# Altium footprint library MODULES.PcbLib: 5 footprints
Each footprint in its own frame and in the unit in brackets; x right, y up, seen from the top. Pads: shape width x height; smd on the part's side, far side on the other; paste and mask are expansions set on the pad; w line width, h text height; cw(c..) or ccw(c..) is an arc to the next point about the centre after c.
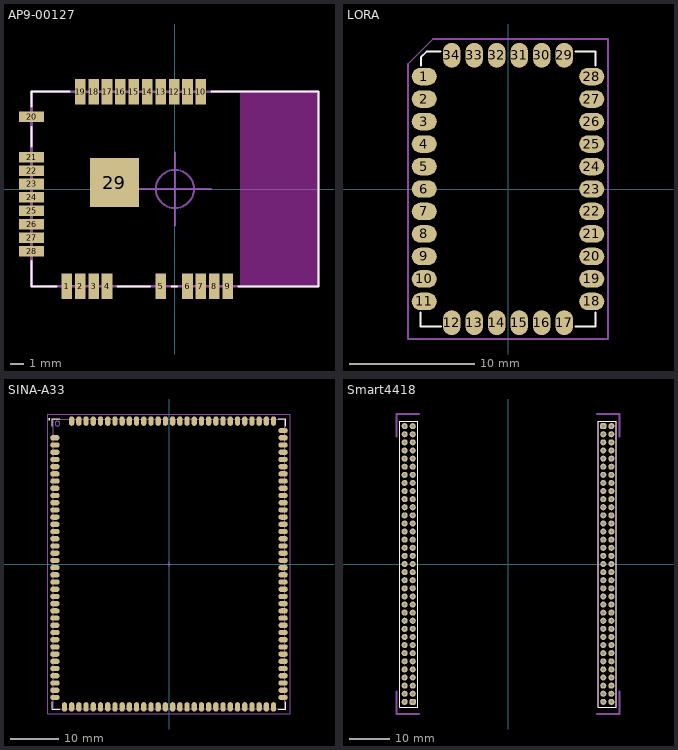
[diagram p0: the footprints below, top view; thin cyan lines are the x and y axes]

## AP9-00127 [mm]
pads (29):
  rect 0.8x1.9 smd: 1(-8.191,-7.366) 2(-7.175,-7.366) 3(-6.159,-7.366) 4(-5.143,-7.366) 5(-1.079,-7.366) 6(0.953,-7.366) 7(1.968,-7.366) 8(2.984,-7.366) 9(4,-7.366) 10(1.968,7.366) 11(0.953,7.366) 12(-0.064,7.366) 13(-1.079,7.366) 14(-2.095,7.366) 15(-3.111,7.366) 16(-4.127,7.366) 17(-5.143,7.366) 18(-6.159,7.366) 19(-7.175,7.366)
  rect 1.9x0.8 smd: 20(-10.858,5.461) 21(-10.858,2.413) 22(-10.858,1.397) 23(-10.858,0.381) 24(-10.858,-0.635) 25(-10.858,-1.651) 26(-10.858,-2.667) 27(-10.858,-3.683) 28(-10.858,-4.699)
  rect 3.7x3.7 smd: 29(-4.588,0.484)
Top Overlay:
  lines w0.15: -10.858,-5.469 -10.858,-7.366 -8.962,-7.366 ; -10.858,3.213 -10.858,4.704 ; -10.858,6.261 -10.858,7.366 -7.976,7.366 ; -4.343,-7.366 -1.88,-7.366 ; -0.279,-7.366 0.152,-7.366 ; 2.769,7.366 10.858,7.366 10.858,-7.366 4.801,-7.366
Keep-Out Layer:
  rectangle: 4.94,-7.391 10.909,7.341
Mechanical 14:
  lines w0.15: -10.858,-7.366 -10.858,7.366 10.858,7.366 10.858,-7.366 -10.858,-7.366
  text ".Designator" at -2.5,-0.7 h1.5
Mechanical 15:
  circle w0.15: c0,0 r1.442
  lines w0.15: -2.75,0 2.75,0 ; 0,-2.75 0,2.75
  lines w0.2: -10.858,-7.366 10.858,-7.366 10.858,7.366 -10.858,7.366 -10.858,-7.366
3D body "wifimodule.step": height 1.96, standoff 0, extent -10.858,-7.366 10.859,7.366

## HC-05 [mm]

## LORA [mm]
pads (34):
  oval 2x1.4 smd: 1(-6.7,9) 2(-6.7,7.2) 3(-6.7,5.4) 4(-6.7,3.6) 5(-6.7,1.8) 6(-6.7,0) 7(-6.7,-1.8) 8(-6.7,-3.6) 9(-6.7,-5.4) 10(-6.7,-7.2) 11(-6.7,-9) 18(6.7,-9) 19(6.7,-7.2) 20(6.7,-5.4) 21(6.7,-3.6) 22(6.7,-1.8) 23(6.7,0) 24(6.7,1.8) 25(6.7,3.6) 26(6.7,5.4) 27(6.7,7.2) 28(6.7,9)
  oval 1.4x2 smd: 12(-4.5,-10.7) 13(-2.7,-10.7) 14(-0.9,-10.7) 15(0.9,-10.7) 16(2.7,-10.7) 17(4.5,-10.7) 29(4.5,10.7) 30(2.7,10.7) 31(0.9,10.7) 32(-0.9,10.7) 33(-2.7,10.7) 34(-4.5,10.7)
Top Overlay:
  lines w0.15: -7,-9.889 -7,-11 -5.37,-11 ; -6.97,9.88 -6.97,10.54 -6.51,11 -5.38,11 ; 5.38,10.999 7,10.999 7,9.88 ; 5.4,-11 7,-11 7,-9.889
Mechanical 15:
  lines w0.15: -8,-12 -8,10 -6,12 8,12 8,-12 -8,-12
3D body "rak811.STEP": height 1.7, standoff -0.01, extent -7,-11.01 7.02,11.01

## SINA-A33 [mm] "Sinlin SBC"
height 4
pads (134):
  oval 1.95x1.1 smd: 1(-23.725,26.25) 2(-23.725,24.75) 3(-23.725,23.25) 4(-23.725,21.75) 5(-23.725,20.25) 6(-23.725,18.75) 7(-23.725,17.25) 8(-23.725,15.75) 9(-23.725,14.25) 10(-23.725,12.75) 11(-23.725,11.25) 12(-23.725,9.75) 13(-23.725,8.25) 14(-23.725,6.75) 15(-23.725,5.25) 16(-23.725,3.75) 17(-23.725,2.25) 18(-23.725,0.75) 19(-23.725,-0.75) 20(-23.725,-2.25) 21(-23.725,-3.75) 22(-23.725,-5.25) 23(-23.725,-6.75) 24(-23.725,-8.25) 25(-23.725,-9.75) 26(-23.725,-11.25) 27(-23.725,-12.75) 28(-23.725,-14.25) 29(-23.725,-15.75) 30(-23.725,-17.25) 31(-23.725,-18.75) 32(-23.725,-20.25) 33(-23.725,-21.75) 34(-23.725,-23.25) 35(-23.725,-24.75) 36(-23.725,-26.25) 37(-23.725,-27.75) 68(23.725,-27.75) 69(23.725,-26.25) 70(23.725,-24.75) 71(23.725,-23.25) 72(23.725,-21.75) 73(23.725,-20.25) 74(23.725,-18.75) 75(23.725,-17.25) 76(23.725,-15.75) 77(23.725,-14.25) 78(23.725,-12.75) 79(23.725,-11.25) 80(23.725,-9.75) 81(23.725,-8.25) 82(23.725,-6.75) 83(23.725,-5.25) 84(23.725,-3.75) 85(23.725,-2.25) 86(23.725,-0.75) 87(23.725,0.75) 88(23.725,2.25) 89(23.725,3.75) 90(23.725,5.25) 91(23.725,6.75) 92(23.725,8.25) 93(23.725,9.75) 94(23.725,11.25) 95(23.725,12.75) 96(23.725,14.25) 97(23.725,15.75) 98(23.725,17.25) 99(23.725,18.75) 100(23.725,20.25) 101(23.725,21.75) 102(23.725,23.25) 103(23.725,24.75) 104(23.725,26.25) 105(23.725,27.75)
  oval 1.1x1.95 smd: 38(-21.75,-29.725) 39(-20.25,-29.725) 40(-18.75,-29.725) 41(-17.25,-29.725) 42(-15.75,-29.725) 43(-14.25,-29.725) 44(-12.75,-29.725) 45(-11.25,-29.725) 46(-9.75,-29.725) 47(-8.25,-29.725) 48(-6.75,-29.725) 49(-5.25,-29.725) 50(-3.75,-29.725) 51(-2.25,-29.725) 52(-0.75,-29.725) 53(0.75,-29.725) 54(2.25,-29.725) 55(3.75,-29.725) 56(5.25,-29.725) 57(6.75,-29.725) 58(8.25,-29.725) 59(9.75,-29.725) 60(11.25,-29.725) 61(12.75,-29.725) 62(14.25,-29.725) 63(15.75,-29.725) 64(17.25,-29.725) 65(18.75,-29.725) 66(20.25,-29.725) 67(21.75,-29.725) 106(21.75,29.725) 107(20.25,29.725) 108(18.75,29.725) 109(17.25,29.725) 110(15.75,29.725) 111(14.25,29.725) 112(12.75,29.725) 113(11.25,29.725) 114(9.75,29.725) 115(8.25,29.725) 116(6.75,29.725) 117(5.25,29.725) 118(3.75,29.725) 119(2.25,29.725) 120(0.75,29.725) 121(-0.75,29.725) 122(-2.25,29.725) 123(-3.75,29.725) 124(-5.25,29.725) 125(-6.75,29.725) 126(-8.25,29.725) 127(-9.75,29.725) 128(-11.25,29.725) 129(-12.75,29.725) 130(-14.25,29.725) 131(-15.75,29.725) 132(-17.25,29.725) 133(-18.75,29.725) 134(-20.25,29.725)
Top Overlay:
  circle w0.25: c-24.9,30.1 r0.125
  lines w0.15: -24.25,-28.675 -24.25,-30.25 -22.675,-30.25 ; -24.25,28.675 -24.25,30.25 -22.675,30.25 ; 22.675,-30.25 24.25,-30.25 24.25,-28.675 ; 22.675,30.25 24.25,30.25 24.25,28.675
Mechanical 13:
  circle w0.1: c-23.2,29.2 r0.5
  lines w0.1: -24.1,-30.1 -24.1,30.1 24.1,30.1 24.1,-30.1 -24.1,-30.1
Mechanical 15:
  lines w0.05: -25.2,-31.2 -25.2,31.2 25.2,31.2 25.2,-31.2 -25.2,-31.2
  lines w0.1: -0.5,0 0.5,0 ; 0,-0.5 0,0.5
3D body "QFN150P4800X6000X400-136M.step": height 4, standoff 0, extent -24.11,-30.11 24.11,30.11

## Smart4418 [mm]
pads (140):
  rrect50% 1.5x1.5 hole 0.8: 1(-23.5,-34) 71(23.5,34)
  round 1.5 hole 0.8: 2(-25.5,-34) 3(-23.5,-32) 4(-25.5,-32) 5(-23.5,-30) 6(-25.5,-30) 7(-23.5,-28) 8(-25.5,-28) 9(-23.5,-26) 10(-25.5,-26) 11(-23.5,-24) 12(-25.5,-24) 13(-23.5,-22) 14(-25.5,-22) 15(-23.5,-20) 16(-25.5,-20) 17(-23.5,-18) 18(-25.5,-18) 19(-23.5,-16) 20(-25.5,-16) 21(-23.5,-14) 22(-25.5,-14) 23(-23.5,-12) 24(-25.5,-12) 25(-23.5,-10) 26(-25.5,-10) 27(-23.5,-8) 28(-25.5,-8) 29(-23.5,-6) 30(-25.5,-6) 31(-23.5,-4) 32(-25.5,-4) 33(-23.5,-2) 34(-25.5,-2) 35(-23.5,0) 36(-25.5,0) 37(-23.5,2) 38(-25.5,2) 39(-23.5,4) 40(-25.5,4) 41(-23.5,6) 42(-25.5,6) 43(-23.5,8) 44(-25.5,8) 45(-23.5,10) 46(-25.5,10) 47(-23.5,12) 48(-25.5,12) 49(-23.5,14) 50(-25.5,14) 51(-23.5,16) 52(-25.5,16) 53(-23.5,18) 54(-25.5,18) 55(-23.5,20) 56(-25.5,20) 57(-23.5,22) 58(-25.5,22) 59(-23.5,24) 60(-25.5,24) 61(-23.5,26) 62(-25.5,26) 63(-23.5,28) 64(-25.5,28) 65(-23.5,30) 66(-25.5,30) 67(-23.5,32) 68(-25.5,32) 69(-23.5,34) 70(-25.5,34) 72(25.5,34) 73(23.5,32) 74(25.5,32) 75(23.5,30) 76(25.5,30) 77(23.5,28) 78(25.5,28) 79(23.5,26) 80(25.5,26) 81(23.5,24) 82(25.5,24) 83(23.5,22) 84(25.5,22) 85(23.5,20) 86(25.5,20) 87(23.5,18) 88(25.5,18) 89(23.5,16) 90(25.5,16) 91(23.5,14) 92(25.5,14) 93(23.5,12) 94(25.5,12) 95(23.5,10) 96(25.5,10) 97(23.5,8) 98(25.5,8) 99(23.5,6) 100(25.5,6) 101(23.5,4) 102(25.5,4) 103(23.5,2) 104(25.5,2) 105(23.5,0) 106(25.5,0) 107(23.5,-2) 108(25.5,-2) 109(23.5,-4) 110(25.5,-4) 111(23.5,-6) 112(25.5,-6) 113(23.5,-8) 114(25.5,-8) 115(23.5,-10) 116(25.5,-10) 117(23.5,-12) 118(25.5,-12) 119(23.5,-14) 120(25.5,-14) 121(23.5,-16) 122(25.5,-16) 123(23.5,-18) 124(25.5,-18) 125(23.5,-20) 126(25.5,-20) 127(23.5,-22) 128(25.5,-22) 129(23.5,-24) 130(25.5,-24) 131(23.5,-26) 132(25.5,-26) 133(23.5,-28) 134(25.5,-28) 135(23.5,-30) 136(25.5,-30) 137(23.5,-32) 138(25.5,-32) 139(23.5,-34) 140(25.5,-34)
Top Overlay:
  lines w0.15: -26.75,-35.3 -22.25,-35.3 -22.25,35.25 -26.75,35.25 -26.75,-35.3 ; 22.25,-35.3 26.75,-35.3 26.75,35.25 22.25,35.25 22.25,-35.3
Mechanical 14:
  lines w0.1: -26.75,-35.3 -22.25,-35.3 -22.25,35.25 -26.75,35.25 -26.75,-35.3 ; 22.25,-35.3 26.75,-35.3 26.75,35.25 22.25,35.25 22.25,-35.3
  lines w0.55: -27.5,-31.5 -27.5,-37 -22,-37 ; -27.5,31.5 -27.5,37 -22,37 ; 22,-37 27.5,-37 27.5,-31.5 ; 22,37 27.5,37 27.5,31.5
  text ".Designator" at -5,-2 h3
3D body "Smart4418.STEP": height 9.7, standoff 0, extent -27.5,-37 27.5,37